# Altium schematic symbol library GOSTBOM.SchLib: 5 symbols
Pins are listed as number, name and electrical type; pins without a type are passive.

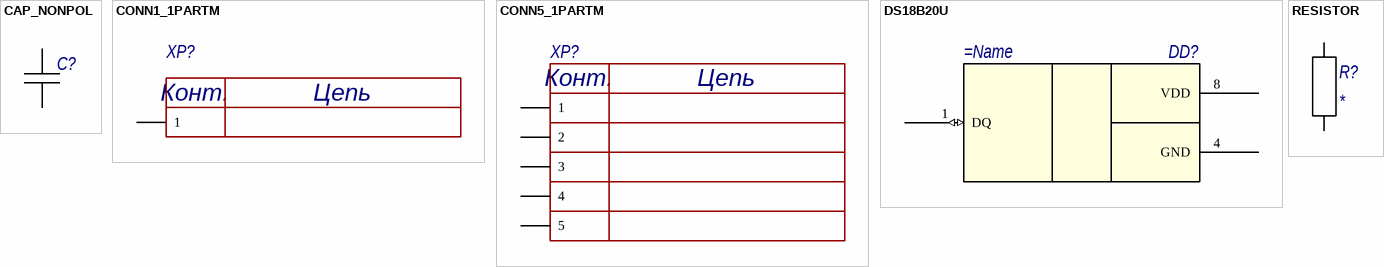
[diagram p0: symbols CAP_NONPOL to RESISTOR]

## CAP_NONPOL
designator C?
Non-polarised capacitor; ComponentLink1Description: Manufacturer Link; ComponentLink1URL: www.murata.com; ComponentLink2Description: Datasheet Link; ComponentLink2URL: http://www.murata.com/products/catalog/pdf/c02e.pdf; ValueSCH: *
pins: 1, 2

## CONN1_1PARTM
designator XP?
Connector 1 pin male - 1 parts; ComponentLink1Description: Manufacturer Link; ComponentLink1URL: http://elsy.nov.ru/; ComponentLink2Description: Datasheet Link
pins: 1
text: Конт.; Цепь

## CONN5_1PARTM
designator XP?
Connector 1 pin male - 1 parts; ComponentLink1Description: Manufacturer Link; ComponentLink1URL: http://elsy.nov.ru/; ComponentLink2Description: Datasheet Link
pins: 1, 2, 3, 4, 5
text: Конт.; Цепь

## DS18B20U
designator DD?
Programmable Resolution 1-Wire Digital Thermometer; ComponentLink1Description: Manufacturer Link; ComponentLink1URL: www.maximintegrated.com; ComponentLink2Description: Datasheet Link; ComponentLink2URL: http://datasheets.maximintegrated.com/en/ds/DS18B20.pdf
pins: 1 DQ (io) "Data Input/Output. Open-drain 1-Wire interface pin. Also provides power to the device when used in parasite power mode.", 2 NC hidden "No Connection", 3 NC hidden "No Connection", 4 GND (power) "Ground", 5 NC hidden "No Connection", 6 NC hidden "No Connection", 7 NC hidden "No Connection", 8 VDD (power) "Optional VDD. VDD must be grounded for operation in parasite power mode."

## RESISTOR
designator R?
ComponentLink1Description: Manufacturer Link; ComponentLink1URL: www.bourns.com; ComponentLink2Description: Datasheet Link; ComponentLink2URL: http://www.bourns.com/data/global/pdfs/CR2010.pdf; ValueSCH: *
pins: 1, 2